# EAGLE library part BP2832K (library dword1511-pmic-dcdc)
Non-isolated Buck Offline LED Driver
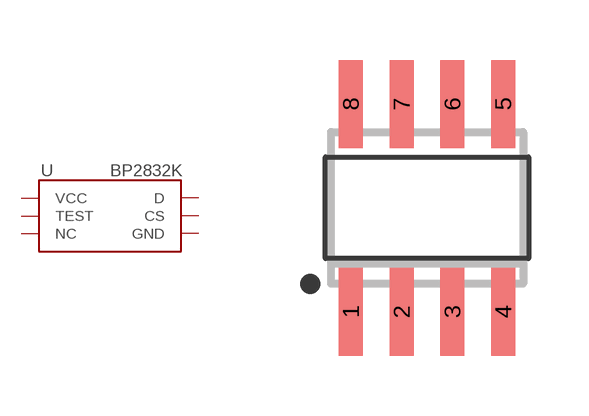
[diagram p19: symbol with the pads of SOIC-8; footprint SOIC-8]

Designator prefix U

## BP2832K  [SOIC-8]
1  GND  pwr
2  TEST  pwr
3  NC  nc
4  VCC  pwr
5  D  oc
6  D  oc
7  CS  pwr
8  CS  pwr

## Footprint SOIC-8 (pad centres in mm)
smd 0.6 x 2.2: 1 -1.905,-2.6; 2 -0.635,-2.6; 3 0.635,-2.6; 4 1.905,-2.6; 5 1.905,2.6; 6 0.635,2.6; 7 -0.635,2.6; 8 -1.905,2.6